# Altium integrated library Linear Technology PMIC-Switching Reg LT1074-LT8705.IntLib: 2252 symbols (part 50 of 124)
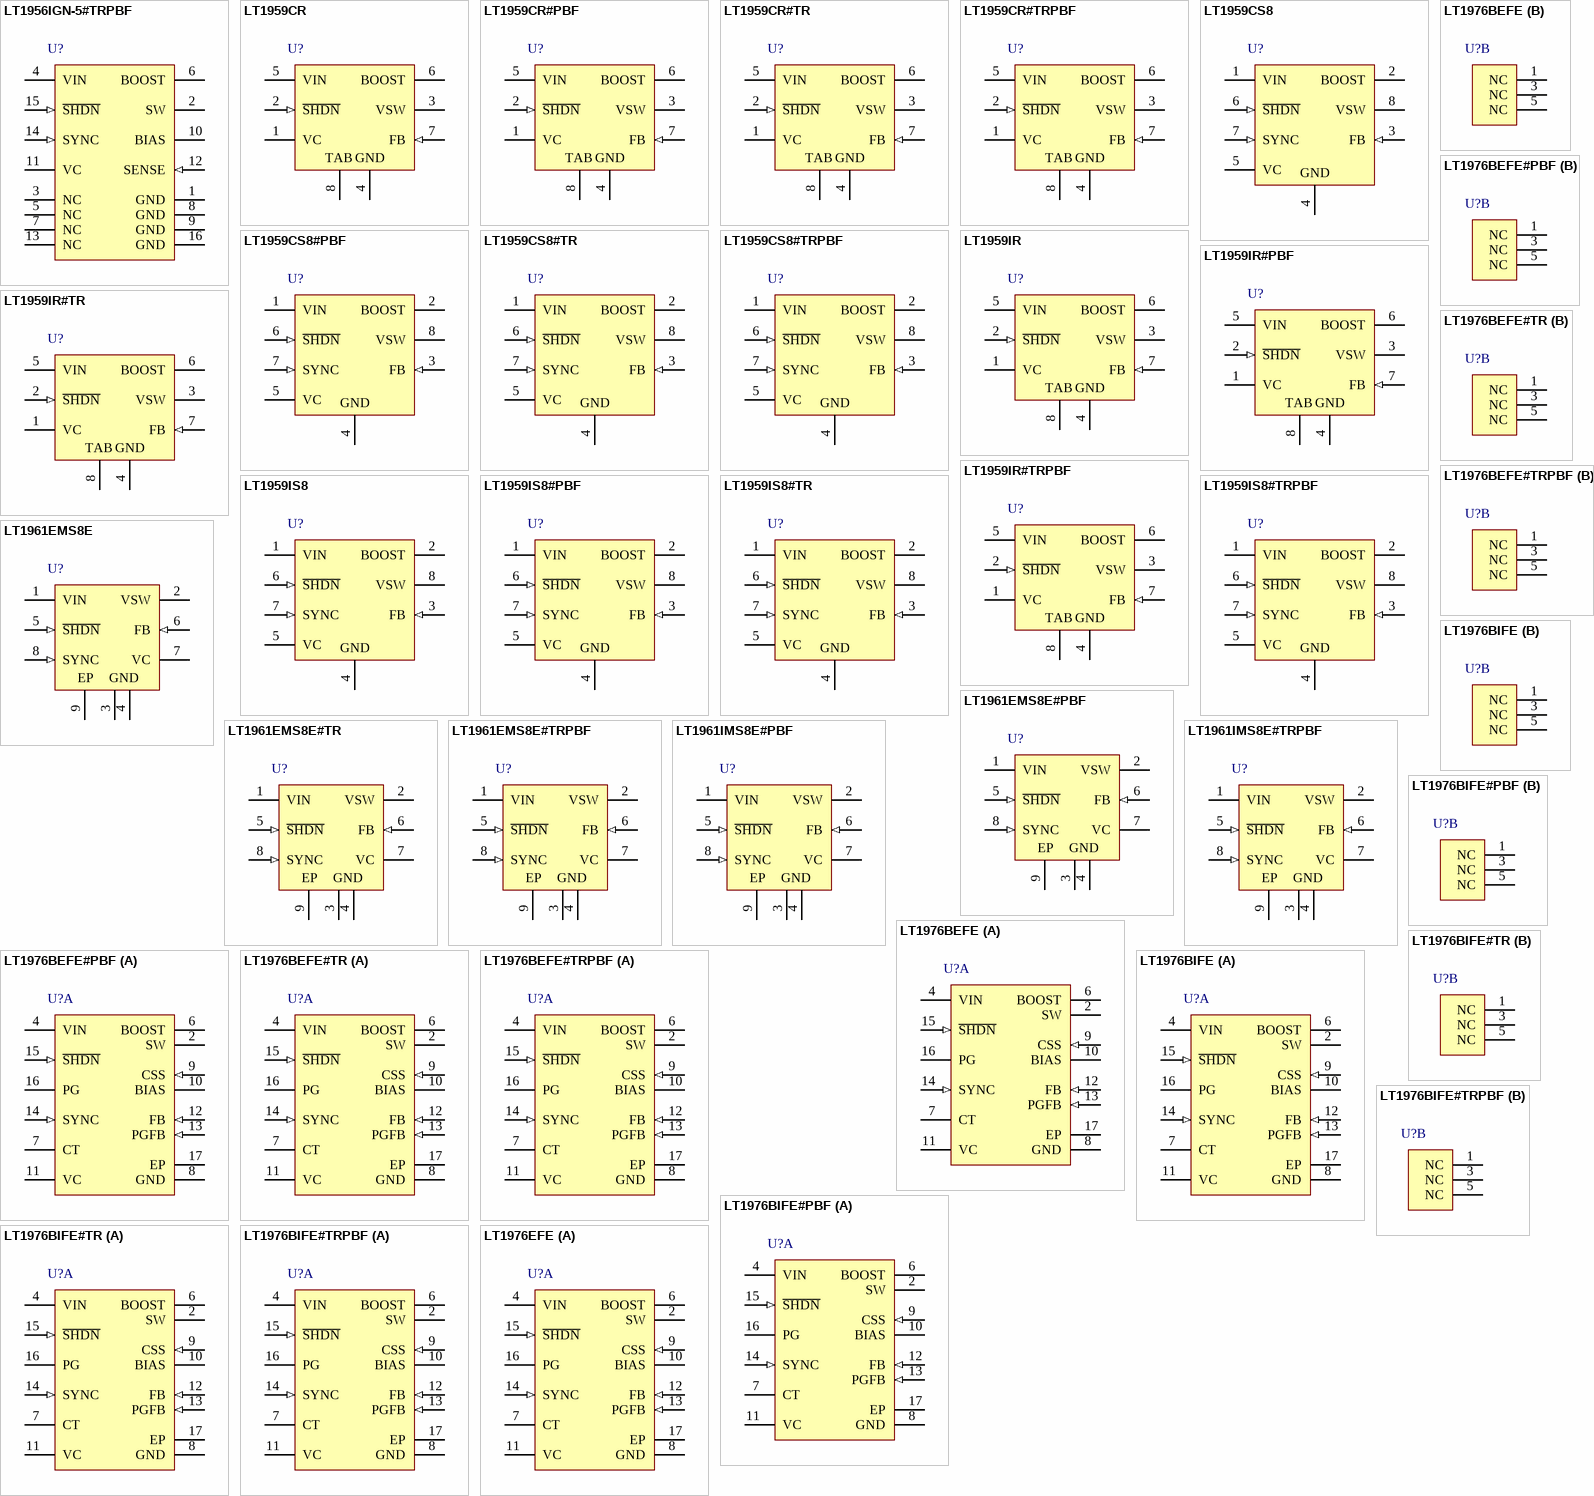
[diagram p120: symbols LT1956IGN-5#TRPBF to LT1976EFE]

## LT1959IS8#PBF
designator U?
4.5 A, 500 kHz Step-Down Switching Regulator, 8-pin SOIC (S8-8), -40 to 125 degC, Pb-Free; Manufacturer: Linear Technology; PartNumber: LT1959IS8#PBF; Number of Outputs: 1; PackageReference: S8-8; PackageDescription: 8-Pin Plastic Small Outline (Narrow .150 Inch), Body 4.9 x 3.9 mm, Pitch 1.27 mm; Supplier 1: Digi-Key; Supplier Part Number 1: LT1959IS8#PBF-ND; RoHS: TRUE
footprint LT-S8-8_N (SOIC, 8-Leads, Body 5x4mm, Pitch 1.27mm, IPC Medium Density)
footprint LT-S8-8_L (SOIC, 8-Leads, Body 5x4mm, Pitch 1.27mm, IPC High Density)
footprint LT-S8-8_M (SOIC, 8-Leads, Body 5x4mm, Pitch 1.27mm, IPC Low Density)
pins: 1 VIN (power) "This is the collector of the on-chip power NPN switch. This pin powers the internal circuitry and internal regulator. At NPN switch on and off, high dI/dt edges occur on this pin. Keep the external bypass and catch diode (See Datasheet)", 2 BOOST "The BOOST pin is used to provide a drive voltage, higher than the input voltage, to the internal bipolar NPN power switch. Without this added voltage, the typical switch voltage loss would be about 1.5V. The additional boost (See Datasheet)", 3 FB (in) "The feedback pin is used to set output voltage using an external voltage divider that generates 1.21V at the pin with the desired output voltage. Three additional functions are performed by the FB pin. When the pin voltage (See Datasheet)", 4 GND (power) "The GND pin connection needs consideration for two reasons. First, it acts as the reference for the regulated output, so load regulation will suffer if the “ground" end of the load is not at the same voltage as the (See Datasheet)", 5 VC "The VC pin is the output of the error amplifier and the input of the peak switch current comparator. It is normally used for frequency compensation, but can do double duty as a current clamp or control loop override. This (See Datasheet)", 6 ~{SHDN} (in) "The shutdown pin is used to turn off the regulator and to reduce input drain current to a few microamperes. Actually, this pin has two separate thresholds, one at 2.38V to disable switching, and a second at 0.4V to force (See Datasheet)", 7 SYNC (in) "The sync pin is used to synchronize the internal oscillator to an external signal. It is directly logic compatible and can be driven with any signal between 10% and 90% duty cycle. The synchronizing range is equal to initial (See Datasheet)", 8 VSW (power) "The switch pin is the emitter of the on-chip power NPN switch. This pin is driven up to the input pin voltage during switch on time. Inductor current drives the switch pin negative during switch off time. Negative voltage is (See Datasheet)"

## LT1959IS8#TR
designator U?
4.5 A, 500 kHz Step-Down Switching Regulator, 8-pin SOIC (S8-8), -40 to 125 degC, Tape and Reel; Manufacturer: Linear Technology; PartNumber: LT1959IS8#TR; Number of Outputs: 1; PackageReference: S8-8; PackageDescription: 8-Pin Plastic Small Outline (Narrow .150 Inch), Body 4.9 x 3.9 mm, Pitch 1.27 mm; Supplier 1: Digi-Key; Supplier Part Number 1: LT1959IS8#TR-ND; RoHS: FALSE
footprint LT-S8-8_N (SOIC, 8-Leads, Body 5x4mm, Pitch 1.27mm, IPC Medium Density)
footprint LT-S8-8_L (SOIC, 8-Leads, Body 5x4mm, Pitch 1.27mm, IPC High Density)
footprint LT-S8-8_M (SOIC, 8-Leads, Body 5x4mm, Pitch 1.27mm, IPC Low Density)
pins: 1 VIN (power) "This is the collector of the on-chip power NPN switch. This pin powers the internal circuitry and internal regulator. At NPN switch on and off, high dI/dt edges occur on this pin. Keep the external bypass and catch diode (See Datasheet)", 2 BOOST "The BOOST pin is used to provide a drive voltage, higher than the input voltage, to the internal bipolar NPN power switch. Without this added voltage, the typical switch voltage loss would be about 1.5V. The additional boost (See Datasheet)", 3 FB (in) "The feedback pin is used to set output voltage using an external voltage divider that generates 1.21V at the pin with the desired output voltage. Three additional functions are performed by the FB pin. When the pin voltage (See Datasheet)", 4 GND (power) "The GND pin connection needs consideration for two reasons. First, it acts as the reference for the regulated output, so load regulation will suffer if the “ground" end of the load is not at the same voltage as the (See Datasheet)", 5 VC "The VC pin is the output of the error amplifier and the input of the peak switch current comparator. It is normally used for frequency compensation, but can do double duty as a current clamp or control loop override. This (See Datasheet)", 6 ~{SHDN} (in) "The shutdown pin is used to turn off the regulator and to reduce input drain current to a few microamperes. Actually, this pin has two separate thresholds, one at 2.38V to disable switching, and a second at 0.4V to force (See Datasheet)", 7 SYNC (in) "The sync pin is used to synchronize the internal oscillator to an external signal. It is directly logic compatible and can be driven with any signal between 10% and 90% duty cycle. The synchronizing range is equal to initial (See Datasheet)", 8 VSW (power) "The switch pin is the emitter of the on-chip power NPN switch. This pin is driven up to the input pin voltage during switch on time. Inductor current drives the switch pin negative during switch off time. Negative voltage is (See Datasheet)"

## LT1959IS8#TRPBF
designator U?
4.5 A, 500 kHz Step-Down Switching Regulator, 8-pin SOIC (S8-8), -40 to 125 degC, Pb-Free, Tape and Reel; Manufacturer: Linear Technology; PartNumber: LT1959IS8#TRPBF; Number of Outputs: 1; PackageReference: S8-8; PackageDescription: 8-Pin Plastic Small Outline (Narrow .150 Inch), Body 4.9 x 3.9 mm, Pitch 1.27 mm; Supplier 1: Digi-Key; Supplier Part Number 1: LT1959IS8#TRPBF-ND; RoHS: TRUE
footprint LT-S8-8_N (SOIC, 8-Leads, Body 5x4mm, Pitch 1.27mm, IPC Medium Density)
footprint LT-S8-8_L (SOIC, 8-Leads, Body 5x4mm, Pitch 1.27mm, IPC High Density)
footprint LT-S8-8_M (SOIC, 8-Leads, Body 5x4mm, Pitch 1.27mm, IPC Low Density)
pins: 1 VIN (power) "This is the collector of the on-chip power NPN switch. This pin powers the internal circuitry and internal regulator. At NPN switch on and off, high dI/dt edges occur on this pin. Keep the external bypass and catch diode (See Datasheet)", 2 BOOST "The BOOST pin is used to provide a drive voltage, higher than the input voltage, to the internal bipolar NPN power switch. Without this added voltage, the typical switch voltage loss would be about 1.5V. The additional boost (See Datasheet)", 3 FB (in) "The feedback pin is used to set output voltage using an external voltage divider that generates 1.21V at the pin with the desired output voltage. Three additional functions are performed by the FB pin. When the pin voltage (See Datasheet)", 4 GND (power) "The GND pin connection needs consideration for two reasons. First, it acts as the reference for the regulated output, so load regulation will suffer if the “ground" end of the load is not at the same voltage as the (See Datasheet)", 5 VC "The VC pin is the output of the error amplifier and the input of the peak switch current comparator. It is normally used for frequency compensation, but can do double duty as a current clamp or control loop override. This (See Datasheet)", 6 ~{SHDN} (in) "The shutdown pin is used to turn off the regulator and to reduce input drain current to a few microamperes. Actually, this pin has two separate thresholds, one at 2.38V to disable switching, and a second at 0.4V to force (See Datasheet)", 7 SYNC (in) "The sync pin is used to synchronize the internal oscillator to an external signal. It is directly logic compatible and can be driven with any signal between 10% and 90% duty cycle. The synchronizing range is equal to initial (See Datasheet)", 8 VSW (power) "The switch pin is the emitter of the on-chip power NPN switch. This pin is driven up to the input pin voltage during switch on time. Inductor current drives the switch pin negative during switch off time. Negative voltage is (See Datasheet)"

## LT1961EMS8E
designator U?
1.5 A, 1.25 MHz Step-Up Switching Regulator, 8-pin SOP (MS8E-8), -40 to 125 degC; Manufacturer: Linear Technology; PartNumber: LT1961EMS8E; Number of Outputs: 1; PackageReference: MS8E-8; PackageDescription: 8-Pin Plastic MSOP, Exposed Die Pad, Body 3 x 3 mm, Pitch 0.65 mm; Supplier 1: Digi-Key; Supplier Part Number 1: LT1961EMS8E-ND; RoHS: FALSE
footprint LT-MS8E-8-2060X1830TP_N (SOP, 8-Leads, Body 3.1x3.1mm, Pitch 0.65mm, Thermal Pad 2.162x1.932mm, IPC Medium Density)
footprint LT-MS8E-8-2060X1830TP_L (SOP, 8-Leads, Body 3.1x3.1mm, Pitch 0.65mm, Thermal Pad 2.162x1.932mm, IPC High Density)
footprint LT-MS8E-8-2060X1830TP_M (SOP, 8-Leads, Body 3.1x3.1mm, Pitch 0.65mm, Thermal Pad 2.162x1.932mm, IPC Low Density)
pins: 1 VIN (power) "This pin powers the internal circuitry and internal regulator. Keep the external bypass capacitor close to this pin.", 2 VSW (power) "The switch pin is the collector of the on-chip power NPN switch and has large currents flowing through it. Keep the traces to the switching components as short as possible to minimize radiation and voltage spikes.", 3 GND (power) "Short GND pins 3 and 4 and the exposed pad on the PCB. The GND is the reference for the regulated output, so load regulation will suffer if the “ground?end of the load is not at the same voltage as the GND of the (See Datasheet)", 4 GND (power) "Short GND pins 3 and 4 and the exposed pad on the PCB. The GND is the reference for the regulated output, so load regulation will suffer if the “ground?end of the load is not at the same voltage as the GND of the (See Datasheet)", 5 ~{SHDN} (in) "The shutdown pin is used to turn off the regulator and to reduce input drain current to a few microamperes. The 1.35V threshold can function as an accurate undervoltage lockout (UVLO), preventing the regulator from operating (See Datasheet)", 6 FB (in) "The feedback pin is used to set output voltage using an external voltage divider that generates 1.2V at the pin with the desired output voltage. If required, the current limit can be reduced during start up when the FB pin (See Datasheet)", 7 VC "The VC pin is the output of the error amplifier and the input of the peak switch current comparator. It is normally used for frequency compensation, but can do double duty as a current clamp or control loop override. This (See Datasheet)", 8 SYNC (in) "The sync pin is used to synchronize the internal oscillator to an external signal. It is directly logic compatible and can be driven with any signal between 20% and 80% duty cycle. The synchronizing range is equal to initial (See Datasheet)", 9 EP (power)

## LT1961EMS8E#PBF
designator U?
1.5 A, 1.25 MHz Step-Up Switching Regulator, 8-pin SOP (MS8E-8), -40 to 125 degC, Pb-Free; Manufacturer: Linear Technology; PartNumber: LT1961EMS8E#PBF; Number of Outputs: 1; PackageReference: MS8E-8; PackageDescription: 8-Pin Plastic MSOP, Exposed Die Pad, Body 3 x 3 mm, Pitch 0.65 mm; Supplier 1: Digi-Key; Supplier Part Number 1: LT1961EMS8E#PBF-ND; RoHS: TRUE
footprint LT-MS8E-8-2060X1830TP_N (SOP, 8-Leads, Body 3.1x3.1mm, Pitch 0.65mm, Thermal Pad 2.162x1.932mm, IPC Medium Density)
footprint LT-MS8E-8-2060X1830TP_L (SOP, 8-Leads, Body 3.1x3.1mm, Pitch 0.65mm, Thermal Pad 2.162x1.932mm, IPC High Density)
footprint LT-MS8E-8-2060X1830TP_M (SOP, 8-Leads, Body 3.1x3.1mm, Pitch 0.65mm, Thermal Pad 2.162x1.932mm, IPC Low Density)
pins: 1 VIN (power) "This pin powers the internal circuitry and internal regulator. Keep the external bypass capacitor close to this pin.", 2 VSW (power) "The switch pin is the collector of the on-chip power NPN switch and has large currents flowing through it. Keep the traces to the switching components as short as possible to minimize radiation and voltage spikes.", 3 GND (power) "Short GND pins 3 and 4 and the exposed pad on the PCB. The GND is the reference for the regulated output, so load regulation will suffer if the “ground?end of the load is not at the same voltage as the GND of the (See Datasheet)", 4 GND (power) "Short GND pins 3 and 4 and the exposed pad on the PCB. The GND is the reference for the regulated output, so load regulation will suffer if the “ground?end of the load is not at the same voltage as the GND of the (See Datasheet)", 5 ~{SHDN} (in) "The shutdown pin is used to turn off the regulator and to reduce input drain current to a few microamperes. The 1.35V threshold can function as an accurate undervoltage lockout (UVLO), preventing the regulator from operating (See Datasheet)", 6 FB (in) "The feedback pin is used to set output voltage using an external voltage divider that generates 1.2V at the pin with the desired output voltage. If required, the current limit can be reduced during start up when the FB pin (See Datasheet)", 7 VC "The VC pin is the output of the error amplifier and the input of the peak switch current comparator. It is normally used for frequency compensation, but can do double duty as a current clamp or control loop override. This (See Datasheet)", 8 SYNC (in) "The sync pin is used to synchronize the internal oscillator to an external signal. It is directly logic compatible and can be driven with any signal between 20% and 80% duty cycle. The synchronizing range is equal to initial (See Datasheet)", 9 EP (power)

## LT1961EMS8E#TR
designator U?
1.5 A, 1.25 MHz Step-Up Switching Regulator, 8-pin SOP (MS8E-8), -40 to 125 degC, Tape and Reel; Manufacturer: Linear Technology; PartNumber: LT1961EMS8E#TR; Number of Outputs: 1; PackageReference: MS8E-8; PackageDescription: 8-Pin Plastic MSOP, Exposed Die Pad, Body 3 x 3 mm, Pitch 0.65 mm; Supplier 1: Digi-Key; Supplier Part Number 1: LT1961EMS8E#TR-ND; RoHS: FALSE
footprint LT-MS8E-8-2060X1830TP_N (SOP, 8-Leads, Body 3.1x3.1mm, Pitch 0.65mm, Thermal Pad 2.162x1.932mm, IPC Medium Density)
footprint LT-MS8E-8-2060X1830TP_L (SOP, 8-Leads, Body 3.1x3.1mm, Pitch 0.65mm, Thermal Pad 2.162x1.932mm, IPC High Density)
footprint LT-MS8E-8-2060X1830TP_M (SOP, 8-Leads, Body 3.1x3.1mm, Pitch 0.65mm, Thermal Pad 2.162x1.932mm, IPC Low Density)
pins: 1 VIN (power) "This pin powers the internal circuitry and internal regulator. Keep the external bypass capacitor close to this pin.", 2 VSW (power) "The switch pin is the collector of the on-chip power NPN switch and has large currents flowing through it. Keep the traces to the switching components as short as possible to minimize radiation and voltage spikes.", 3 GND (power) "Short GND pins 3 and 4 and the exposed pad on the PCB. The GND is the reference for the regulated output, so load regulation will suffer if the “ground?end of the load is not at the same voltage as the GND of the (See Datasheet)", 4 GND (power) "Short GND pins 3 and 4 and the exposed pad on the PCB. The GND is the reference for the regulated output, so load regulation will suffer if the “ground?end of the load is not at the same voltage as the GND of the (See Datasheet)", 5 ~{SHDN} (in) "The shutdown pin is used to turn off the regulator and to reduce input drain current to a few microamperes. The 1.35V threshold can function as an accurate undervoltage lockout (UVLO), preventing the regulator from operating (See Datasheet)", 6 FB (in) "The feedback pin is used to set output voltage using an external voltage divider that generates 1.2V at the pin with the desired output voltage. If required, the current limit can be reduced during start up when the FB pin (See Datasheet)", 7 VC "The VC pin is the output of the error amplifier and the input of the peak switch current comparator. It is normally used for frequency compensation, but can do double duty as a current clamp or control loop override. This (See Datasheet)", 8 SYNC (in) "The sync pin is used to synchronize the internal oscillator to an external signal. It is directly logic compatible and can be driven with any signal between 20% and 80% duty cycle. The synchronizing range is equal to initial (See Datasheet)", 9 EP (power)

## LT1961EMS8E#TRPBF
designator U?
1.5 A, 1.25 MHz Step-Up Switching Regulator, 8-pin SOP (MS8E-8), -40 to 125 degC, Pb-Free, Tape and Reel; Manufacturer: Linear Technology; PartNumber: LT1961EMS8E#TRPBF; Number of Outputs: 1; PackageReference: MS8E-8; PackageDescription: 8-Pin Plastic MSOP, Exposed Die Pad, Body 3 x 3 mm, Pitch 0.65 mm; Supplier 1: Digi-Key; Supplier Part Number 1: LT1961EMS8E#TRPBF-ND; RoHS: TRUE
footprint LT-MS8E-8-2060X1830TP_N (SOP, 8-Leads, Body 3.1x3.1mm, Pitch 0.65mm, Thermal Pad 2.162x1.932mm, IPC Medium Density)
footprint LT-MS8E-8-2060X1830TP_L (SOP, 8-Leads, Body 3.1x3.1mm, Pitch 0.65mm, Thermal Pad 2.162x1.932mm, IPC High Density)
footprint LT-MS8E-8-2060X1830TP_M (SOP, 8-Leads, Body 3.1x3.1mm, Pitch 0.65mm, Thermal Pad 2.162x1.932mm, IPC Low Density)
pins: 1 VIN (power) "This pin powers the internal circuitry and internal regulator. Keep the external bypass capacitor close to this pin.", 2 VSW (power) "The switch pin is the collector of the on-chip power NPN switch and has large currents flowing through it. Keep the traces to the switching components as short as possible to minimize radiation and voltage spikes.", 3 GND (power) "Short GND pins 3 and 4 and the exposed pad on the PCB. The GND is the reference for the regulated output, so load regulation will suffer if the “ground?end of the load is not at the same voltage as the GND of the (See Datasheet)", 4 GND (power) "Short GND pins 3 and 4 and the exposed pad on the PCB. The GND is the reference for the regulated output, so load regulation will suffer if the “ground?end of the load is not at the same voltage as the GND of the (See Datasheet)", 5 ~{SHDN} (in) "The shutdown pin is used to turn off the regulator and to reduce input drain current to a few microamperes. The 1.35V threshold can function as an accurate undervoltage lockout (UVLO), preventing the regulator from operating (See Datasheet)", 6 FB (in) "The feedback pin is used to set output voltage using an external voltage divider that generates 1.2V at the pin with the desired output voltage. If required, the current limit can be reduced during start up when the FB pin (See Datasheet)", 7 VC "The VC pin is the output of the error amplifier and the input of the peak switch current comparator. It is normally used for frequency compensation, but can do double duty as a current clamp or control loop override. This (See Datasheet)", 8 SYNC (in) "The sync pin is used to synchronize the internal oscillator to an external signal. It is directly logic compatible and can be driven with any signal between 20% and 80% duty cycle. The synchronizing range is equal to initial (See Datasheet)", 9 EP (power)

## LT1961IMS8E#PBF
designator U?
1.5 A, 1.25 MHz Step-Up Switching Regulator, 8-pin SOP (MS8E-8), -40 to 125 degC, Pb-Free; Manufacturer: Linear Technology; PartNumber: LT1961IMS8E#PBF; Number of Outputs: 1; PackageReference: MS8E-8; PackageDescription: 8-Pin Plastic MSOP, Exposed Die Pad, Body 3 x 3 mm, Pitch 0.65 mm; Supplier 1: Digi-Key; Supplier Part Number 1: LT1961IMS8E#PBF-ND; RoHS: FALSE
footprint LT-MS8E-8-2060X1830TP_N (SOP, 8-Leads, Body 3.1x3.1mm, Pitch 0.65mm, Thermal Pad 2.162x1.932mm, IPC Medium Density)
footprint LT-MS8E-8-2060X1830TP_L (SOP, 8-Leads, Body 3.1x3.1mm, Pitch 0.65mm, Thermal Pad 2.162x1.932mm, IPC High Density)
footprint LT-MS8E-8-2060X1830TP_M (SOP, 8-Leads, Body 3.1x3.1mm, Pitch 0.65mm, Thermal Pad 2.162x1.932mm, IPC Low Density)
pins: 1 VIN (power) "This pin powers the internal circuitry and internal regulator. Keep the external bypass capacitor close to this pin.", 2 VSW (power) "The switch pin is the collector of the on-chip power NPN switch and has large currents flowing through it. Keep the traces to the switching components as short as possible to minimize radiation and voltage spikes.", 3 GND (power) "Short GND pins 3 and 4 and the exposed pad on the PCB. The GND is the reference for the regulated output, so load regulation will suffer if the “ground?end of the load is not at the same voltage as the GND of the (See Datasheet)", 4 GND (power) "Short GND pins 3 and 4 and the exposed pad on the PCB. The GND is the reference for the regulated output, so load regulation will suffer if the “ground?end of the load is not at the same voltage as the GND of the (See Datasheet)", 5 ~{SHDN} (in) "The shutdown pin is used to turn off the regulator and to reduce input drain current to a few microamperes. The 1.35V threshold can function as an accurate undervoltage lockout (UVLO), preventing the regulator from operating (See Datasheet)", 6 FB (in) "The feedback pin is used to set output voltage using an external voltage divider that generates 1.2V at the pin with the desired output voltage. If required, the current limit can be reduced during start up when the FB pin (See Datasheet)", 7 VC "The VC pin is the output of the error amplifier and the input of the peak switch current comparator. It is normally used for frequency compensation, but can do double duty as a current clamp or control loop override. This (See Datasheet)", 8 SYNC (in) "The sync pin is used to synchronize the internal oscillator to an external signal. It is directly logic compatible and can be driven with any signal between 20% and 80% duty cycle. The synchronizing range is equal to initial (See Datasheet)", 9 EP (power)

## LT1961IMS8E#TRPBF
designator U?
1.5 A, 1.25 MHz Step-Up Switching Regulator, 8-pin SOP (MS8E-8), -40 to 125 degC, Pb-Free, Tape and Reel; Manufacturer: Linear Technology; PartNumber: LT1961IMS8E#TRPBF; Number of Outputs: 1; PackageReference: MS8E-8; PackageDescription: 8-Pin Plastic MSOP, Exposed Die Pad, Body 3 x 3 mm, Pitch 0.65 mm; Supplier 1: Digi-Key; Supplier Part Number 1: LT1961IMS8E#TRPBF-ND; RoHS: TRUE
footprint LT-MS8E-8-2060X1830TP_N (SOP, 8-Leads, Body 3.1x3.1mm, Pitch 0.65mm, Thermal Pad 2.162x1.932mm, IPC Medium Density)
footprint LT-MS8E-8-2060X1830TP_L (SOP, 8-Leads, Body 3.1x3.1mm, Pitch 0.65mm, Thermal Pad 2.162x1.932mm, IPC High Density)
footprint LT-MS8E-8-2060X1830TP_M (SOP, 8-Leads, Body 3.1x3.1mm, Pitch 0.65mm, Thermal Pad 2.162x1.932mm, IPC Low Density)
pins: 1 VIN (power) "This pin powers the internal circuitry and internal regulator. Keep the external bypass capacitor close to this pin.", 2 VSW (power) "The switch pin is the collector of the on-chip power NPN switch and has large currents flowing through it. Keep the traces to the switching components as short as possible to minimize radiation and voltage spikes.", 3 GND (power) "Short GND pins 3 and 4 and the exposed pad on the PCB. The GND is the reference for the regulated output, so load regulation will suffer if the “ground?end of the load is not at the same voltage as the GND of the (See Datasheet)", 4 GND (power) "Short GND pins 3 and 4 and the exposed pad on the PCB. The GND is the reference for the regulated output, so load regulation will suffer if the “ground?end of the load is not at the same voltage as the GND of the (See Datasheet)", 5 ~{SHDN} (in) "The shutdown pin is used to turn off the regulator and to reduce input drain current to a few microamperes. The 1.35V threshold can function as an accurate undervoltage lockout (UVLO), preventing the regulator from operating (See Datasheet)", 6 FB (in) "The feedback pin is used to set output voltage using an external voltage divider that generates 1.2V at the pin with the desired output voltage. If required, the current limit can be reduced during start up when the FB pin (See Datasheet)", 7 VC "The VC pin is the output of the error amplifier and the input of the peak switch current comparator. It is normally used for frequency compensation, but can do double duty as a current clamp or control loop override. This (See Datasheet)", 8 SYNC (in) "The sync pin is used to synchronize the internal oscillator to an external signal. It is directly logic compatible and can be driven with any signal between 20% and 80% duty cycle. The synchronizing range is equal to initial (See Datasheet)", 9 EP (power)

## LT1976BEFE
designator U?
High Voltage 1.5 A, 200 kHz Step-Down Switching Regulator with 100 uA Quiescent Current, 16-pin SOP (FE-16-EPV-BC), -40 to 125 degC; Manufacturer: Linear Technology; PartNumber: LT1976BEFE; Number of Outputs: 1; PackageReference: FE-16; PackageDescription: 16-Pin Plastic TSSOP, Body 5 x 4.4 mm, Pitch 0.65 mm; RoHS: FALSE
footprint LT-FE-16-EPV-BC_N (SOP, 16-Leads, Body 5.1x4.5mm, Pitch 0.65mm, Thermal Pad 3.58x2.94mm, IPC Medium Density)
footprint LT-FE-16-EPV-BC_L (SOP, 16-Leads, Body 5.1x4.5mm, Pitch 0.65mm, Thermal Pad 3.58x2.94mm, IPC High Density)
footprint LT-FE-16-EPV-BC_M (SOP, 16-Leads, Body 5.1x4.5mm, Pitch 0.65mm, Thermal Pad 3.58x2.94mm, IPC Low Density)
part A pins: 2 SW (power) "The SW pin is the emitter of the on-chip power NPN switch. This pin is driven up to the input pin voltage during switch on time. Inductor current drives the SW pin negative during switch off time. Negative voltage is clamped (See Datasheet)", 4 VIN (power) "This is the collector of the on-chip power NPN switch. VIN powers the internal control circuitry when a voltage on the BIAS pin is not present. High di/dt edges occur on this pin during switch turn on and off. Keep the path (See Datasheet)", 6 BOOST "The BOOST pin is used to provide a drive voltage, higher than the input voltage, to the internal bipolar NPN power switch. Without this added voltage, the typical switch voltage loss would be about 1.5V. The additional BOOST (See Datasheet)", 7 CT "A capacitor on the CT pin determines the amount of delay time between the PGFB pin exceeding its threshold (VPGFB) and the PG pin set to a high impedance state. When the PGFB pin rises above VPGFB, current is sourced from (See Datasheet)", 8 GND (power) "The GND pin connection acts as the reference for the regulated output, so load regulation will suffer if the “ground?end of the load is not at the same voltage as the GND pin of the IC. This condition will occur w(See Datasheet)", 9 CSS (in) "A capacitor from the CSS pin to the regulated output voltage determines the output voltage ramp rate during start-up. When the current through the CSS capacitor exceeds the CSS threshold (ICSS), the voltage ramp of the (See Datasheet)", 10 BIAS (power) "The BIAS pin is used to improve efficiency when operating at higher input voltages and light load current. Connecting this pin to the regulated output voltage forces most of the internal circuitry to draw its operating (See Datasheet)", 11 VC "The VC pin is the output of the error amplifier and the input of the peak switch current comparator. It is normally used for frequency compensation, but can also serve as a current clamp or control loop override. VC sits at (See Datasheet)", 12 FB (in) "The feedback pin is used to determine the output voltage using an external voltage divider from the output that generates 1.25V at the FB pin . When the FB pin drops below 0.9V, switching frequency is reduced, the SYNC (See Datasheet)", 13 PGFB (in) "The PGFB pin is the positive input to a comparator whose negative input is set at VPGFB. When PGFB is taken above VPGFB, current (ICSS) is sourced into the CT pin starting the PG delay period. When the voltage on the PGFB (See Datasheet)", 14 SYNC (in) "The SYNC pin is used to synchronize the internal oscillator to an external signal. It is directly logic compatible and can be driven with any signal between 30% and 70% duty cycle. The synchronizing range is equal to maximum (See Datasheet)", 15 ~{SHDN} (in) "The S\H\D\N\ pin is used to turn off the regulator and to reduce input current to less than 1uA. The S\H\D\N\ pin requires a voltage above 1.3V with a typical source current of 5uA to take the IC out of the shutdown state.", 16 PG (hiz) "The PG pin is functional only when the S\H\D\N\ pin is above its threshold, and is active low when the internal clamp on the CT pin is below its clamp level and high impedance when the clamp is active. The PG pin has a (See Datasheet)", 17 EP (power) "The GND pin connection acts as the reference for the regulated output, so load regulation will suffer if the “ground?end of the load is not at the same voltage as the GND pin of the IC. This condition will occur w(See Datasheet)"
part B pins: 1 NC "No Connection.", 3 NC "No Connection.", 5 NC "No Connection."

## LT1976BEFE#PBF
designator U?
High Voltage 1.5 A, 200 kHz Step-Down Switching Regulator with 100 uA Quiescent Current, 16-pin SOP (FE-16-EPV-BC), -40 to 125 degC, Pb-Free; Manufacturer: Linear Technology; PartNumber: LT1976BEFE#PBF; Number of Outputs: 1; PackageReference: FE-16; PackageDescription: 16-Pin Plastic TSSOP, Body 5 x 4.4 mm, Pitch 0.65 mm; Supplier 1: Digi-Key; Supplier Part Number 1: LT1976BEFE#PBF-ND; RoHS: TRUE
footprint LT-FE-16-EPV-BC_N (SOP, 16-Leads, Body 5.1x4.5mm, Pitch 0.65mm, Thermal Pad 3.58x2.94mm, IPC Medium Density)
footprint LT-FE-16-EPV-BC_L (SOP, 16-Leads, Body 5.1x4.5mm, Pitch 0.65mm, Thermal Pad 3.58x2.94mm, IPC High Density)
footprint LT-FE-16-EPV-BC_M (SOP, 16-Leads, Body 5.1x4.5mm, Pitch 0.65mm, Thermal Pad 3.58x2.94mm, IPC Low Density)
part A pins: 2 SW (power) "The SW pin is the emitter of the on-chip power NPN switch. This pin is driven up to the input pin voltage during switch on time. Inductor current drives the SW pin negative during switch off time. Negative voltage is clamped (See Datasheet)", 4 VIN (power) "This is the collector of the on-chip power NPN switch. VIN powers the internal control circuitry when a voltage on the BIAS pin is not present. High di/dt edges occur on this pin during switch turn on and off. Keep the path (See Datasheet)", 6 BOOST "The BOOST pin is used to provide a drive voltage, higher than the input voltage, to the internal bipolar NPN power switch. Without this added voltage, the typical switch voltage loss would be about 1.5V. The additional BOOST (See Datasheet)", 7 CT "A capacitor on the CT pin determines the amount of delay time between the PGFB pin exceeding its threshold (VPGFB) and the PG pin set to a high impedance state. When the PGFB pin rises above VPGFB, current is sourced from (See Datasheet)", 8 GND (power) "The GND pin connection acts as the reference for the regulated output, so load regulation will suffer if the “ground?end of the load is not at the same voltage as the GND pin of the IC. This condition will occur w(See Datasheet)", 9 CSS (in) "A capacitor from the CSS pin to the regulated output voltage determines the output voltage ramp rate during start-up. When the current through the CSS capacitor exceeds the CSS threshold (ICSS), the voltage ramp of the (See Datasheet)", 10 BIAS (power) "The BIAS pin is used to improve efficiency when operating at higher input voltages and light load current. Connecting this pin to the regulated output voltage forces most of the internal circuitry to draw its operating (See Datasheet)", 11 VC "The VC pin is the output of the error amplifier and the input of the peak switch current comparator. It is normally used for frequency compensation, but can also serve as a current clamp or control loop override. VC sits at (See Datasheet)", 12 FB (in) "The feedback pin is used to determine the output voltage using an external voltage divider from the output that generates 1.25V at the FB pin . When the FB pin drops below 0.9V, switching frequency is reduced, the SYNC (See Datasheet)", 13 PGFB (in) "The PGFB pin is the positive input to a comparator whose negative input is set at VPGFB. When PGFB is taken above VPGFB, current (ICSS) is sourced into the CT pin starting the PG delay period. When the voltage on the PGFB (See Datasheet)", 14 SYNC (in) "The SYNC pin is used to synchronize the internal oscillator to an external signal. It is directly logic compatible and can be driven with any signal between 30% and 70% duty cycle. The synchronizing range is equal to maximum (See Datasheet)", 15 ~{SHDN} (in) "The S\H\D\N\ pin is used to turn off the regulator and to reduce input current to less than 1uA. The S\H\D\N\ pin requires a voltage above 1.3V with a typical source current of 5uA to take the IC out of the shutdown state.", 16 PG (hiz) "The PG pin is functional only when the S\H\D\N\ pin is above its threshold, and is active low when the internal clamp on the CT pin is below its clamp level and high impedance when the clamp is active. The PG pin has a (See Datasheet)", 17 EP (power) "The GND pin connection acts as the reference for the regulated output, so load regulation will suffer if the “ground?end of the load is not at the same voltage as the GND pin of the IC. This condition will occur w(See Datasheet)"
part B pins: 1 NC "No Connection.", 3 NC "No Connection.", 5 NC "No Connection."

## LT1976BEFE#TR
designator U?
High Voltage 1.5 A, 200 kHz Step-Down Switching Regulator with 100 uA Quiescent Current, 16-pin SOP (FE-16-EPV-BC), -40 to 125 degC, Tape and Reel; Manufacturer: Linear Technology; PartNumber: LT1976BEFE#TR; Number of Outputs: 1; PackageReference: FE-16; PackageDescription: 16-Pin Plastic TSSOP, Body 5 x 4.4 mm, Pitch 0.65 mm; RoHS: FALSE
footprint LT-FE-16-EPV-BC_N (SOP, 16-Leads, Body 5.1x4.5mm, Pitch 0.65mm, Thermal Pad 3.58x2.94mm, IPC Medium Density)
footprint LT-FE-16-EPV-BC_L (SOP, 16-Leads, Body 5.1x4.5mm, Pitch 0.65mm, Thermal Pad 3.58x2.94mm, IPC High Density)
footprint LT-FE-16-EPV-BC_M (SOP, 16-Leads, Body 5.1x4.5mm, Pitch 0.65mm, Thermal Pad 3.58x2.94mm, IPC Low Density)
part A pins: 2 SW (power) "The SW pin is the emitter of the on-chip power NPN switch. This pin is driven up to the input pin voltage during switch on time. Inductor current drives the SW pin negative during switch off time. Negative voltage is clamped (See Datasheet)", 4 VIN (power) "This is the collector of the on-chip power NPN switch. VIN powers the internal control circuitry when a voltage on the BIAS pin is not present. High di/dt edges occur on this pin during switch turn on and off. Keep the path (See Datasheet)", 6 BOOST "The BOOST pin is used to provide a drive voltage, higher than the input voltage, to the internal bipolar NPN power switch. Without this added voltage, the typical switch voltage loss would be about 1.5V. The additional BOOST (See Datasheet)", 7 CT "A capacitor on the CT pin determines the amount of delay time between the PGFB pin exceeding its threshold (VPGFB) and the PG pin set to a high impedance state. When the PGFB pin rises above VPGFB, current is sourced from (See Datasheet)", 8 GND (power) "The GND pin connection acts as the reference for the regulated output, so load regulation will suffer if the “ground?end of the load is not at the same voltage as the GND pin of the IC. This condition will occur w(See Datasheet)", 9 CSS (in) "A capacitor from the CSS pin to the regulated output voltage determines the output voltage ramp rate during start-up. When the current through the CSS capacitor exceeds the CSS threshold (ICSS), the voltage ramp of the (See Datasheet)", 10 BIAS (power) "The BIAS pin is used to improve efficiency when operating at higher input voltages and light load current. Connecting this pin to the regulated output voltage forces most of the internal circuitry to draw its operating (See Datasheet)", 11 VC "The VC pin is the output of the error amplifier and the input of the peak switch current comparator. It is normally used for frequency compensation, but can also serve as a current clamp or control loop override. VC sits at (See Datasheet)", 12 FB (in) "The feedback pin is used to determine the output voltage using an external voltage divider from the output that generates 1.25V at the FB pin . When the FB pin drops below 0.9V, switching frequency is reduced, the SYNC (See Datasheet)", 13 PGFB (in) "The PGFB pin is the positive input to a comparator whose negative input is set at VPGFB. When PGFB is taken above VPGFB, current (ICSS) is sourced into the CT pin starting the PG delay period. When the voltage on the PGFB (See Datasheet)", 14 SYNC (in) "The SYNC pin is used to synchronize the internal oscillator to an external signal. It is directly logic compatible and can be driven with any signal between 30% and 70% duty cycle. The synchronizing range is equal to maximum (See Datasheet)", 15 ~{SHDN} (in) "The S\H\D\N\ pin is used to turn off the regulator and to reduce input current to less than 1uA. The S\H\D\N\ pin requires a voltage above 1.3V with a typical source current of 5uA to take the IC out of the shutdown state.", 16 PG (hiz) "The PG pin is functional only when the S\H\D\N\ pin is above its threshold, and is active low when the internal clamp on the CT pin is below its clamp level and high impedance when the clamp is active. The PG pin has a (See Datasheet)", 17 EP (power) "The GND pin connection acts as the reference for the regulated output, so load regulation will suffer if the “ground?end of the load is not at the same voltage as the GND pin of the IC. This condition will occur w(See Datasheet)"
part B pins: 1 NC "No Connection.", 3 NC "No Connection.", 5 NC "No Connection."

## LT1976BEFE#TRPBF
designator U?
High Voltage 1.5 A, 200 kHz Step-Down Switching Regulator with 100 uA Quiescent Current, 16-pin SOP (FE-16-EPV-BC), -40 to 125 degC, Pb-Free, Tape and Reel; Manufacturer: Linear Technology; PartNumber: LT1976BEFE#TRPBF; Number of Outputs: 1; PackageReference: FE-16; PackageDescription: 16-Pin Plastic TSSOP, Body 5 x 4.4 mm, Pitch 0.65 mm; Supplier 1: Digi-Key; Supplier Part Number 1: LT1976BEFE#TRPBF-ND; RoHS: TRUE
footprint LT-FE-16-EPV-BC_N (SOP, 16-Leads, Body 5.1x4.5mm, Pitch 0.65mm, Thermal Pad 3.58x2.94mm, IPC Medium Density)
footprint LT-FE-16-EPV-BC_L (SOP, 16-Leads, Body 5.1x4.5mm, Pitch 0.65mm, Thermal Pad 3.58x2.94mm, IPC High Density)
footprint LT-FE-16-EPV-BC_M (SOP, 16-Leads, Body 5.1x4.5mm, Pitch 0.65mm, Thermal Pad 3.58x2.94mm, IPC Low Density)
part A pins: 2 SW (power) "The SW pin is the emitter of the on-chip power NPN switch. This pin is driven up to the input pin voltage during switch on time. Inductor current drives the SW pin negative during switch off time. Negative voltage is clamped (See Datasheet)", 4 VIN (power) "This is the collector of the on-chip power NPN switch. VIN powers the internal control circuitry when a voltage on the BIAS pin is not present. High di/dt edges occur on this pin during switch turn on and off. Keep the path (See Datasheet)", 6 BOOST "The BOOST pin is used to provide a drive voltage, higher than the input voltage, to the internal bipolar NPN power switch. Without this added voltage, the typical switch voltage loss would be about 1.5V. The additional BOOST (See Datasheet)", 7 CT "A capacitor on the CT pin determines the amount of delay time between the PGFB pin exceeding its threshold (VPGFB) and the PG pin set to a high impedance state. When the PGFB pin rises above VPGFB, current is sourced from (See Datasheet)", 8 GND (power) "The GND pin connection acts as the reference for the regulated output, so load regulation will suffer if the “ground?end of the load is not at the same voltage as the GND pin of the IC. This condition will occur w(See Datasheet)", 9 CSS (in) "A capacitor from the CSS pin to the regulated output voltage determines the output voltage ramp rate during start-up. When the current through the CSS capacitor exceeds the CSS threshold (ICSS), the voltage ramp of the (See Datasheet)", 10 BIAS (power) "The BIAS pin is used to improve efficiency when operating at higher input voltages and light load current. Connecting this pin to the regulated output voltage forces most of the internal circuitry to draw its operating (See Datasheet)", 11 VC "The VC pin is the output of the error amplifier and the input of the peak switch current comparator. It is normally used for frequency compensation, but can also serve as a current clamp or control loop override. VC sits at (See Datasheet)", 12 FB (in) "The feedback pin is used to determine the output voltage using an external voltage divider from the output that generates 1.25V at the FB pin . When the FB pin drops below 0.9V, switching frequency is reduced, the SYNC (See Datasheet)", 13 PGFB (in) "The PGFB pin is the positive input to a comparator whose negative input is set at VPGFB. When PGFB is taken above VPGFB, current (ICSS) is sourced into the CT pin starting the PG delay period. When the voltage on the PGFB (See Datasheet)", 14 SYNC (in) "The SYNC pin is used to synchronize the internal oscillator to an external signal. It is directly logic compatible and can be driven with any signal between 30% and 70% duty cycle. The synchronizing range is equal to maximum (See Datasheet)", 15 ~{SHDN} (in) "The S\H\D\N\ pin is used to turn off the regulator and to reduce input current to less than 1uA. The S\H\D\N\ pin requires a voltage above 1.3V with a typical source current of 5uA to take the IC out of the shutdown state.", 16 PG (hiz) "The PG pin is functional only when the S\H\D\N\ pin is above its threshold, and is active low when the internal clamp on the CT pin is below its clamp level and high impedance when the clamp is active. The PG pin has a (See Datasheet)", 17 EP (power) "The GND pin connection acts as the reference for the regulated output, so load regulation will suffer if the “ground?end of the load is not at the same voltage as the GND pin of the IC. This condition will occur w(See Datasheet)"
part B pins: 1 NC "No Connection.", 3 NC "No Connection.", 5 NC "No Connection."

## LT1976BIFE
designator U?
High Voltage 1.5 A, 200 kHz Step-Down Switching Regulator with 100 uA Quiescent Current, 16-pin SOP (FE-16-EPV-BC), -40 to 125 degC; Manufacturer: Linear Technology; PartNumber: LT1976BIFE; Number of Outputs: 1; PackageReference: FE-16; PackageDescription: 16-Pin Plastic TSSOP, Body 5 x 4.4 mm, Pitch 0.65 mm; RoHS: FALSE
footprint LT-FE-16-EPV-BC_N (SOP, 16-Leads, Body 5.1x4.5mm, Pitch 0.65mm, Thermal Pad 3.58x2.94mm, IPC Medium Density)
footprint LT-FE-16-EPV-BC_L (SOP, 16-Leads, Body 5.1x4.5mm, Pitch 0.65mm, Thermal Pad 3.58x2.94mm, IPC High Density)
footprint LT-FE-16-EPV-BC_M (SOP, 16-Leads, Body 5.1x4.5mm, Pitch 0.65mm, Thermal Pad 3.58x2.94mm, IPC Low Density)
part A pins: 2 SW (power) "The SW pin is the emitter of the on-chip power NPN switch. This pin is driven up to the input pin voltage during switch on time. Inductor current drives the SW pin negative during switch off time. Negative voltage is clamped (See Datasheet)", 4 VIN (power) "This is the collector of the on-chip power NPN switch. VIN powers the internal control circuitry when a voltage on the BIAS pin is not present. High di/dt edges occur on this pin during switch turn on and off. Keep the path (See Datasheet)", 6 BOOST "The BOOST pin is used to provide a drive voltage, higher than the input voltage, to the internal bipolar NPN power switch. Without this added voltage, the typical switch voltage loss would be about 1.5V. The additional BOOST (See Datasheet)", 7 CT "A capacitor on the CT pin determines the amount of delay time between the PGFB pin exceeding its threshold (VPGFB) and the PG pin set to a high impedance state. When the PGFB pin rises above VPGFB, current is sourced from (See Datasheet)", 8 GND (power) "The GND pin connection acts as the reference for the regulated output, so load regulation will suffer if the “ground?end of the load is not at the same voltage as the GND pin of the IC. This condition will occur w(See Datasheet)", 9 CSS (in) "A capacitor from the CSS pin to the regulated output voltage determines the output voltage ramp rate during start-up. When the current through the CSS capacitor exceeds the CSS threshold (ICSS), the voltage ramp of the (See Datasheet)", 10 BIAS (power) "The BIAS pin is used to improve efficiency when operating at higher input voltages and light load current. Connecting this pin to the regulated output voltage forces most of the internal circuitry to draw its operating (See Datasheet)", 11 VC "The VC pin is the output of the error amplifier and the input of the peak switch current comparator. It is normally used for frequency compensation, but can also serve as a current clamp or control loop override. VC sits at (See Datasheet)", 12 FB (in) "The feedback pin is used to determine the output voltage using an external voltage divider from the output that generates 1.25V at the FB pin . When the FB pin drops below 0.9V, switching frequency is reduced, the SYNC (See Datasheet)", 13 PGFB (in) "The PGFB pin is the positive input to a comparator whose negative input is set at VPGFB. When PGFB is taken above VPGFB, current (ICSS) is sourced into the CT pin starting the PG delay period. When the voltage on the PGFB (See Datasheet)", 14 SYNC (in) "The SYNC pin is used to synchronize the internal oscillator to an external signal. It is directly logic compatible and can be driven with any signal between 30% and 70% duty cycle. The synchronizing range is equal to maximum (See Datasheet)", 15 ~{SHDN} (in) "The S\H\D\N\ pin is used to turn off the regulator and to reduce input current to less than 1uA. The S\H\D\N\ pin requires a voltage above 1.3V with a typical source current of 5uA to take the IC out of the shutdown state.", 16 PG (hiz) "The PG pin is functional only when the S\H\D\N\ pin is above its threshold, and is active low when the internal clamp on the CT pin is below its clamp level and high impedance when the clamp is active. The PG pin has a (See Datasheet)", 17 EP (power) "The GND pin connection acts as the reference for the regulated output, so load regulation will suffer if the “ground?end of the load is not at the same voltage as the GND pin of the IC. This condition will occur w(See Datasheet)"
part B pins: 1 NC "No Connection.", 3 NC "No Connection.", 5 NC "No Connection."